# Altium footprint library HK_PCBLIB.PcbLib: 47 footprints (part 2 of 3)
Each footprint in its own frame and in the unit in brackets; x right, y up, seen from the top. Pads: shape width x height; smd on the part's side, far side on the other; paste and mask are expansions set on the pad; w line width, h text height; cw(c..) or ccw(c..) is an arc to the next point about the centre after c.
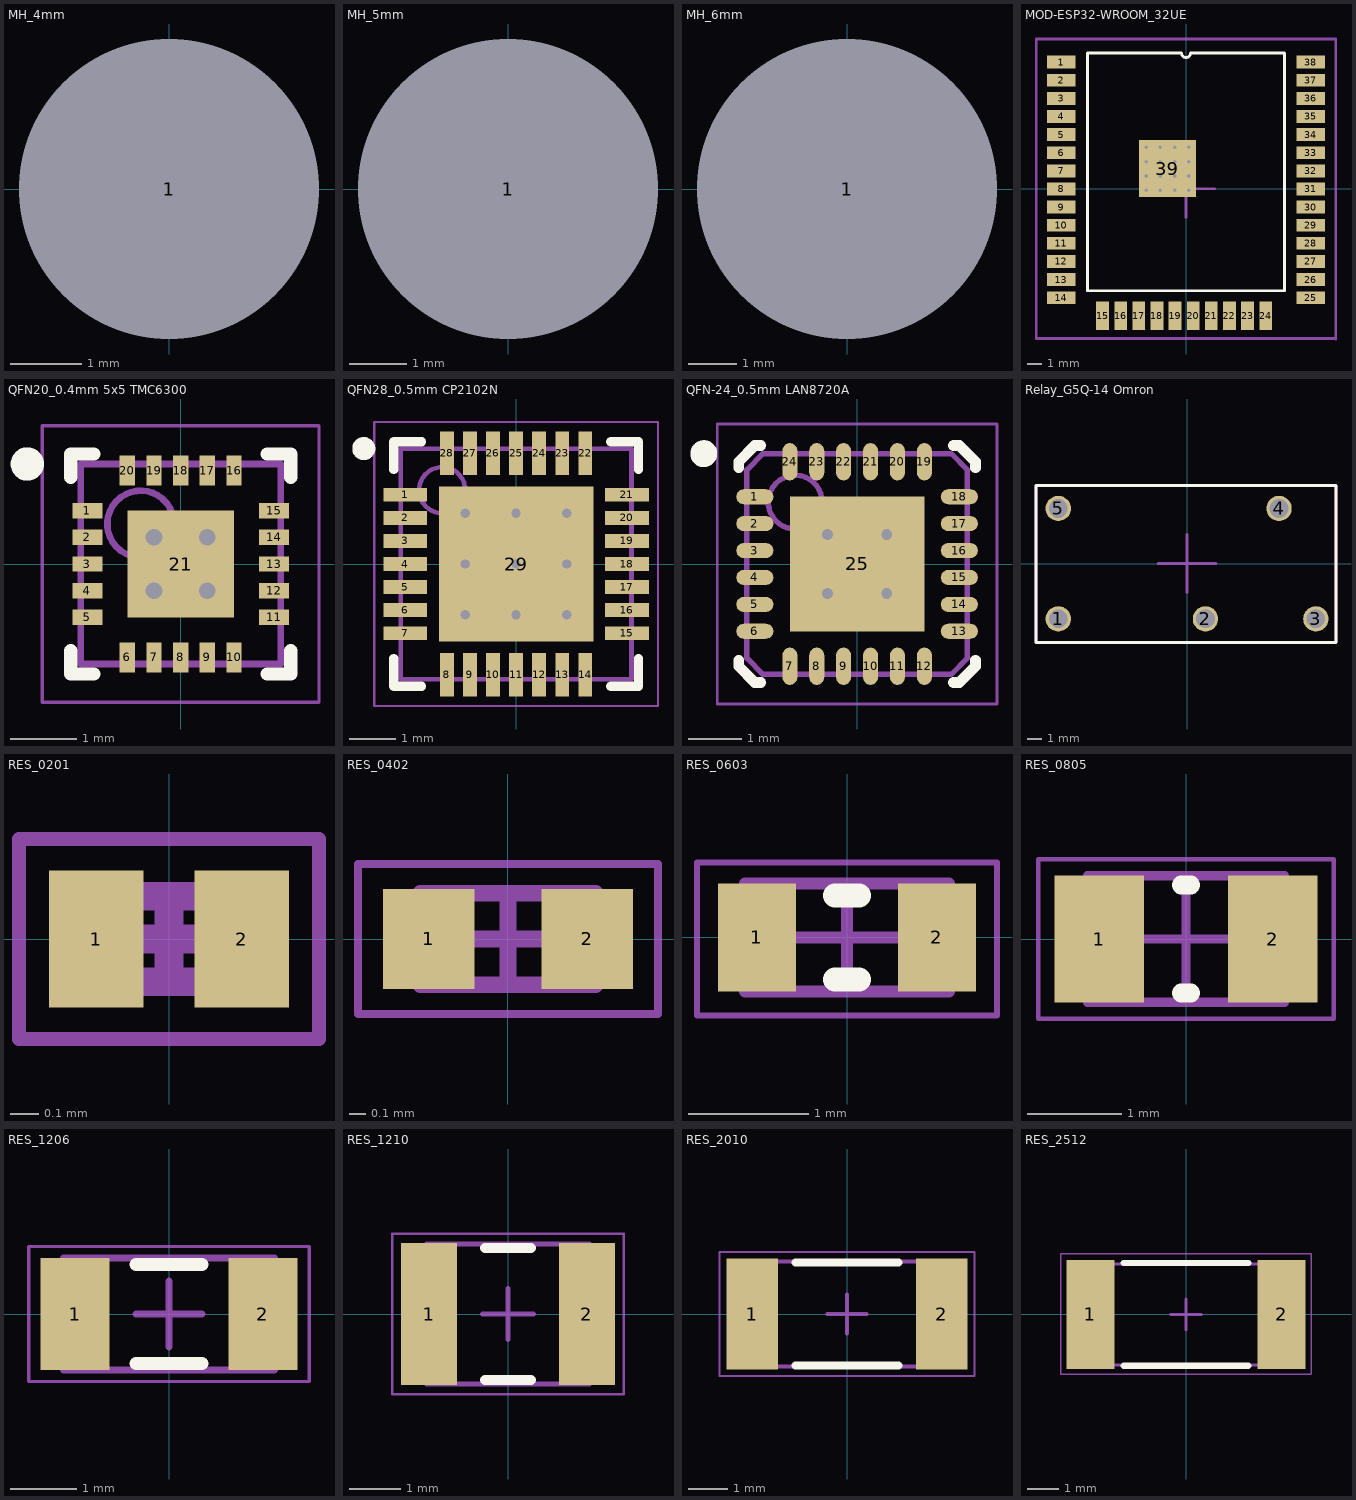
[diagram p1: the footprints below, top view; thin cyan lines are the x and y axes]

## MH_4mm [mil]
pads (1):
  round 60 hole 165.35 unplated: 1(0,0)

## MH_5mm [mil]
pads (1):
  round 60 hole 204.72 unplated: 1(0,0)

## MH_6mm [mil]
pads (1):
  round 60 hole 244.09 unplated: 1(0,0)

## MOD-ESP32-WROOM_32UE [mm]
pads (39):
  rect 2x0.9 smd: 1(-8.75,8.88) 2(-8.75,7.61) 3(-8.75,6.34) 4(-8.75,5.07) 5(-8.75,3.8) 6(-8.75,2.53) 7(-8.75,1.26) 8(-8.75,-0.01) 9(-8.75,-1.28) 10(-8.75,-2.55) 11(-8.75,-3.82) 12(-8.75,-5.09) 13(-8.75,-6.36) 14(-8.75,-7.63) 25(8.75,-7.63) 26(8.75,-6.36) 27(8.75,-5.09) 28(8.75,-3.82) 29(8.75,-2.55) 30(8.75,-1.28) 31(8.75,-0.01) 32(8.75,1.26) 33(8.75,2.53) 34(8.75,3.8) 35(8.75,5.07) 36(8.75,6.34) 37(8.75,7.61) 38(8.75,8.88)
  rect 0.9x2 smd: 15(-5.846,-8.88) 16(-4.576,-8.88) 17(-3.306,-8.88) 18(-2.036,-8.88) 19(-0.766,-8.88) 20(0.504,-8.88) 21(1.774,-8.88) 22(3.044,-8.88) 23(4.314,-8.88) 24(5.584,-8.88)
  rect 4x4 smd: 39(-1.3,1.41)
via 0.2,-0.1 diameter 0.45 hole 0.25
via -0.8,-0.1 diameter 0.45 hole 0.25
via -1.8,-0.1 diameter 0.45 hole 0.25
via -2.8,-0.1 diameter 0.45 hole 0.25
via 0.2,0.9 diameter 0.45 hole 0.25
via -0.8,0.9 diameter 0.45 hole 0.25
via -1.8,0.9 diameter 0.45 hole 0.25
via -2.8,0.9 diameter 0.45 hole 0.25
via 0.2,2.9 diameter 0.45 hole 0.25
via -0.8,2.9 diameter 0.45 hole 0.25
via -1.8,2.9 diameter 0.45 hole 0.25
via -2.8,2.9 diameter 0.45 hole 0.25
via 0.2,1.9 diameter 0.45 hole 0.25
via -0.8,1.9 diameter 0.45 hole 0.25
via -1.8,1.9 diameter 0.45 hole 0.25
via -2.8,1.9 diameter 0.45 hole 0.25
Top Overlay:
  lines w0.2: -6.915,-7.145 6.915,-7.145 6.915,9.515 0.318,9.515 cw(c0,9.515) -0.318,9.515 -6.915,9.515 -6.915,-7.145
Mechanical 15:
  lines w0.2: -2,0 2,0 ; 0,-2 0,2 ; 10.375,-10.5 -10.5,-10.5 -10.5,10.5 10.5,10.5 10.5,-10.525
3D body "ESP32-WROOM-32UE-M113EH6400UH3Q0---3DModel-STEP-56544.STEP": height 3.35, standoff 0, extent -9.075,-9.145 8.925,10.055

## QFN20_0.4mm 5x5 TMC6300 [mm]
pads (21):
  rect 0.45x0.23 smd mask+0.05: 1(-1.4,0.8) 2(-1.4,0.4) 3(-1.4,0) 4(-1.4,-0.4) 5(-1.4,-0.8) 11(1.4,-0.8) 12(1.4,-0.4) 13(1.4,0) 14(1.4,0.4) 15(1.4,0.8)
  rect 0.23x0.45 smd mask+0.05: 6(-0.8,-1.4) 7(-0.4,-1.4) 8(0,-1.4) 9(0.4,-1.4) 10(0.8,-1.4) 16(0.8,1.4) 17(0.4,1.4) 18(0,1.4) 19(-0.4,1.4) 20(-0.8,1.4)
  rect 1.6x1.6 smd mask+0.05: 21(0,0)
via -0.4,0.4 diameter 0.45 hole 0.25
via 0.4,0.4 diameter 0.45 hole 0.25
via 0.4,-0.4 diameter 0.45 hole 0.25
via -0.4,-0.4 diameter 0.45 hole 0.25
Top Overlay:
  circle w0.25: c-2.3,1.5 r0.125
  lines w0.2: -1.65,-1.3 -1.65,-1.65 -1.3,-1.65 ; -1.65,1.3 -1.65,1.65 -1.3,1.65 ; 1.3,-1.65 1.65,-1.65 1.65,-1.3 ; 1.3,1.65 1.65,1.65 1.65,1.3
Mechanical 13:
  circle w0.1: c-0.6,0.6 r0.5
  lines w0.1: -1.5,-1.5 -1.5,1.5 1.5,1.5 1.5,-1.5 -1.5,-1.5
Mechanical 15:
  lines w0.05: -2.075,-2.075 -2.075,2.075 2.075,2.075 2.075,-2.075 -2.075,-2.075
  lines w0.1: -0.5,0 0.5,0 ; 0,-0.5 0,0.5
3D body "QFN20_3x3_TRI.step": height 0.92, standoff 0, extent -1.499,-1.499 1.499,1.499

## QFN28_0.5mm CP2102N [mm]
pads (29):
  rect 0.95x0.3 smd: 1(-2.4,1.5) 2(-2.4,1) 3(-2.4,0.5) 4(-2.4,0) 5(-2.4,-0.5) 6(-2.4,-1) 7(-2.4,-1.5) 15(2.4,-1.5) 16(2.4,-1) 17(2.4,-0.5) 18(2.4,0) 19(2.4,0.5) 20(2.4,1) 21(2.4,1.5)
  rect 0.3x0.95 smd: 8(-1.5,-2.4) 9(-1,-2.4) 10(-0.5,-2.4) 11(0,-2.4) 12(0.5,-2.4) 13(1,-2.4) 14(1.5,-2.4) 22(1.5,2.4) 23(1,2.4) 24(0.5,2.4) 25(0,2.4) 26(-0.5,2.4) 27(-1,2.4) 28(-1.5,2.4)
  rect 3.35x3.35 smd: 29(0,0)
via 1.1,-1.1 diameter 0.5 hole 0.2
via 0,-1.1 diameter 0.5 hole 0.2
via -1.1,-1.1 diameter 0.5 hole 0.2
via 1.1,0 diameter 0.5 hole 0.2
via 0,0 diameter 0.5 hole 0.2
via -1.1,0 diameter 0.5 hole 0.2
via 1.1,1.1 diameter 0.5 hole 0.2
via 0,1.1 diameter 0.5 hole 0.2
via -1.1,1.1 diameter 0.5 hole 0.2
Top Overlay:
  circle w0.25: c-3.3,2.5 r0.125
  lines w0.2: -2.65,-2.05 -2.65,-2.65 -2.05,-2.65 ; -2.65,2.05 -2.65,2.65 -2.05,2.65 ; 2.05,-2.65 2.65,-2.65 2.65,-2.05 ; 2.05,2.65 2.65,2.65 2.65,2.05
Mechanical 13:
  circle w0.1: c-1.6,1.6 r0.5
  lines w0.1: -2.5,-2.5 2.5,-2.5 2.5,2.5 -2.5,2.5 -2.5,-2.5
Mechanical 15:
  lines w0.05: -3.075,-3.075 3.075,-3.075 3.075,3.075 -3.075,3.075 -3.075,-3.075
  lines w0.1: -0.5,0 0.5,0 ; 0,-0.5 0,0.5
3D body "QFN28_5X5_SIL.step": height 0.81, standoff 0, extent -2.502,-2.502 2.502,2.502

## QFN-24_0.5mm LAN8720A [mm]
pads (25):
  oval 0.692x0.28 smd mask+0.05: 1(-1.9,1.25) 2(-1.9,0.75) 3(-1.9,0.25) 4(-1.9,-0.25) 5(-1.9,-0.75) 6(-1.9,-1.25) 13(1.9,-1.25) 14(1.9,-0.75) 15(1.9,-0.25) 16(1.9,0.25) 17(1.9,0.75) 18(1.9,1.25)
  oval 0.28x0.692 smd mask+0.05: 7(-1.25,-1.9) 8(-0.75,-1.9) 9(-0.25,-1.9) 10(0.25,-1.9) 11(0.75,-1.9) 12(1.25,-1.9) 19(1.25,1.9) 20(0.75,1.9) 21(0.25,1.9) 22(-0.25,1.9) 23(-0.75,1.9) 24(-1.25,1.9)
  rect 2.5x2.5 smd mask+0.05: 25(0,0)
via 0.55,-0.55 diameter 0.5 hole 0.2
via -0.55,-0.55 diameter 0.5 hole 0.2
via 0.55,0.55 diameter 0.5 hole 0.2
via -0.55,0.55 diameter 0.5 hole 0.2
Top Overlay:
  circle w0.25: c-2.85,2.05 r0.125
  lines w0.2: -2.2,-1.79 -2.2,-1.9 -1.9,-2.2 -1.79,-2.2 ; -2.2,1.79 -2.2,1.9 -1.9,2.2 -1.79,2.2 ; 1.79,-2.2 1.9,-2.2 2.2,-1.9 2.2,-1.79 ; 1.79,2.2 1.9,2.2 2.2,1.9 2.2,1.79
Mechanical 13:
  circle w0.1: c-1.15,1.15 r0.5
  lines w0.1: -2.05,-1.75 -2.05,1.75 -1.75,2.05 1.75,2.05 2.05,1.75 2.05,-1.75 1.75,-2.05 -1.75,-2.05 -2.05,-1.75
Mechanical 15:
  lines w0.05: -2.6,-2.6 2.6,-2.6 2.6,2.6 -2.6,2.6 -2.6,-2.6
  lines w0.1: -0.5,0 0.5,0 ; 0,-0.5 0,0.5
3D body "LAN8720A-CP-TR.STEP": height 1, standoff 0, extent -2,-2 2,2

## Relay_G5Q-14 Omron [mm]
pads (5):
  round 1.75 hole 1.3: 1(-8.89,-3.81) 2(1.27,-3.81) 3(8.89,-3.81) 4(6.35,3.81) 5(-8.89,3.81)
Top Overlay:
  lines w0.2: -10.427,-5.45 10.275,-5.45 10.275,5.402 -10.423,5.402 -10.427,5.398 -10.427,-5.45
Mechanical 15:
  lines w0.2: -2,0 2,0 ; 0,-2 0,2 ; -10.42,-5.453 -10.42,5.394 -10.415,5.399 10.282,5.399 10.282,-5.453 -10.42,-5.453
3D body "G5Q_14.step": height 16.2, standoff -3.4, extent -10.22,-5.15 10.08,5.15

## RES_0201 [mm]
height 0.26
pads (2):
  rect 0.33x0.48 smd mask+0.05: 1(-0.255,0) 2(0.255,0)
Mechanical 13:
  lines w0.1: -0.3,-0.15 0.3,-0.15 0.3,0.15 -0.3,0.15 -0.3,-0.15
Mechanical 15:
  lines w0.05: -0.525,-0.35 0.525,-0.35 0.525,0.35 -0.525,0.35 -0.525,-0.35
  lines w0.1: -0.15,0 0.15,0 ; 0,-0.15 0,0.15
3D body "RC0201JR-070RL.STEP": height 0.26, standoff 0, extent -0.3,-0.15 0.3,0.15

## RES_0402 [mm]
pads (2):
  rect 0.55x0.6 smd mask+0.05: 1(-0.475,0) 2(0.475,0)
Mechanical 13:
  lines w0.1: -0.525,-0.275 0.525,-0.275 0.525,0.275 -0.525,0.275 -0.525,-0.275
Mechanical 15:
  lines w0.05: -0.9,-0.45 0.9,-0.45 0.9,0.45 -0.9,0.45 -0.9,-0.45
  lines w0.1: -0.275,0 0.275,0 ; 0,-0.275 0,0.275
3D body "RC0402FR-070RL.STEP": height 0.4, standoff 0, extent -0.5,-0.25 0.5,0.25

## RES_0603 [mm]
height 0.5
pads (2):
  rect 0.65x0.9 smd: 1(-0.75,0) 2(0.75,0)
Top Overlay:
  lines w0.2: -0.1,-0.35 0.1,-0.35 ; -0.1,0.35 0.1,0.35
Mechanical 13:
  lines w0.1: -0.85,-0.45 0.85,-0.45 0.85,0.45 -0.85,0.45 -0.85,-0.45
Mechanical 15:
  lines w0.05: -1.25,-0.65 1.25,-0.65 1.25,0.625 -1.25,0.625 -1.25,-0.65
  lines w0.1: -0.45,0 0.45,0 ; 0,-0.45 0,0.45
3D body "RC0603N_YAG.step": height 0.71, standoff 0, extent -0.8,-0.406 0.8,0.406

## RES_0805 [mm]
height 0.6
pads (2):
  rect 0.95x1.35 smd: 1(-0.925,0) 2(0.925,0)
Top Overlay:
  lines w0.2: -0.05,-0.575 0.05,-0.575 ; -0.05,0.575 0.05,0.575
Mechanical 13:
  lines w0.1: -1.05,-0.675 1.05,-0.675 1.05,0.675 -1.05,0.675 -1.05,-0.675
Mechanical 15:
  lines w0.05: -1.575,-0.85 1.575,-0.85 1.575,0.85 -1.575,0.85 -1.575,-0.85
  lines w0.1: -0.5,0 0.5,0 ; 0,-0.5 0,0.5
3D body "RC0805FR-072K7L.STEP": height 0.6, standoff 0, extent -1,-0.625 1,0.625

## RES_1206 [mm]
height 0.65
pads (2):
  rect 1.05x1.7 smd: 1(-1.425,0) 2(1.425,0)
Top Overlay:
  lines w0.2: -0.5,-0.75 0.5,-0.75 ; -0.5,0.75 0.5,0.75
Mechanical 13:
  lines w0.1: -1.6,-0.85 -1.6,0.85 1.6,0.85 1.6,-0.85 -1.6,-0.85
Mechanical 15:
  lines w0.05: -2.125,-1.025 -2.125,1.025 2.125,1.025 2.125,-1.025 -2.125,-1.025
  lines w0.1: -0.5,0 0.5,0 ; 0,-0.5 0,0.5
3D body "RC1206JR-070RL--3DModel-STEP-510211.STEP": height 0.66, standoff 0, extent -1.55,-0.8 1.55,0.8

## RES_1210 [mm]
height 0.65
pads (2):
  rect 1.1x2.8 smd: 1(-1.55,0) 2(1.55,0)
Top Overlay:
  lines w0.2: -0.45,-1.3 0.45,-1.3 ; -0.45,1.3 0.45,1.3
Mechanical 13:
  lines w0.1: -1.6,-1.375 -1.6,1.375 1.6,1.375 1.6,-1.375 -1.6,-1.375
Mechanical 15:
  lines w0.05: -2.275,-1.575 -2.275,1.575 2.275,1.575 2.275,-1.575 -2.275,-1.575
  lines w0.1: -0.5,0 0.5,0 ; 0,-0.5 0,0.5
3D body "RC1210JR-070RL.STEP": height 0.65, standoff 0, extent -1.55,-1.3 1.55,1.3

## RES_2010 [mm]
pads (2):
  rect 1.3x2.8 smd: 1(-2.4,0) 2(2.4,0)
Top Overlay:
  lines w0.2: -1.3,-1.3 1.3,-1.3 ; -1.3,1.3 1.3,1.3
Mechanical 13:
  lines w0.1: -2.55,-1.325 2.55,-1.325 2.55,1.325 -2.55,1.325 -2.55,-1.325
Mechanical 15:
  lines w0.05: -3.225,-1.575 3.225,-1.575 3.225,1.575 -3.225,1.575 -3.225,-1.575
  lines w0.1: -0.5,0 0.5,0 ; 0,-0.5 0,0.5
3D body "RES_RC2010_YAG.step": height 0.66, standoff 0, extent -2.553,-1.321 2.553,1.321

## RES_2512 [mm]
height 0.65
pads (2):
  rect 1.55x3.5 smd: 1(-3.075,0) 2(3.075,0)
Top Overlay:
  lines w0.2: -2,-1.65 2,-1.65 ; -2,1.65 2,1.65
Mechanical 13:
  lines w0.1: -3.225,-1.625 -3.225,1.625 3.225,1.625 3.225,-1.625 -3.225,-1.625
Mechanical 15:
  lines w0.05: -4.025,-1.925 -4.025,1.95 4.025,1.95 4.025,-1.925 -4.025,-1.925
  lines w0.1: -0.5,0 0.5,0 ; 0,-0.5 0,0.5
3D body "SR2512JK-7W100RL.STEP": height 0.65, standoff 0, extent -3.175,-1.55 3.175,1.55